# Altium footprint library JMP1X5-F180_2.00.PcbLib: 1 footprints
Each footprint in its own frame and in the unit in brackets; x right, y up, seen from the top. Pads: shape width x height; smd on the part's side, far side on the other; paste and mask are expansions set on the pad; w line width, h text height; cw(c..) or ccw(c..) is an arc to the next point about the centre after c.
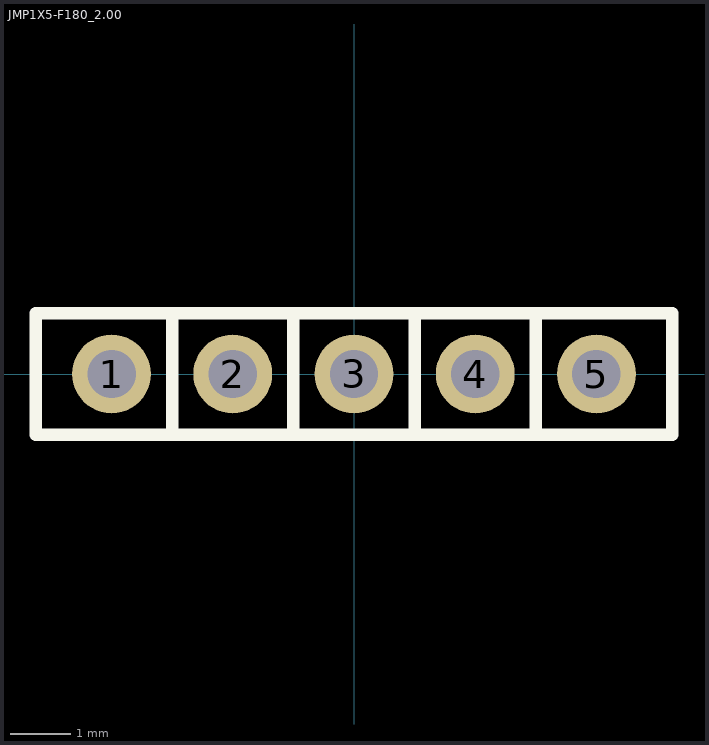
[diagram p0: the footprint, top view; thin cyan lines are the x and y axes]

## JMP1X5-F180_2.00 [mm]
height 4.5
pads (5):
  round 1.3 hole 0.8: 1(-4,0) 2(-2,0) 3(0,0) 4(2,0) 5(4,0)
TopOverlay:
  lines w0.203: -3,-1 -3,1 ; -1,-1 -1,1 ; 1,-1 1,1 ; 3,-1 3,1 ; -5.25,-1 5.25,-1 5.25,1 -5.25,1 -5.25,-1
3D body: height 4.5, standoff 0, extent -5.25,-1 5.25,1